# EAGLE library part DRV8872 (library drv8872)
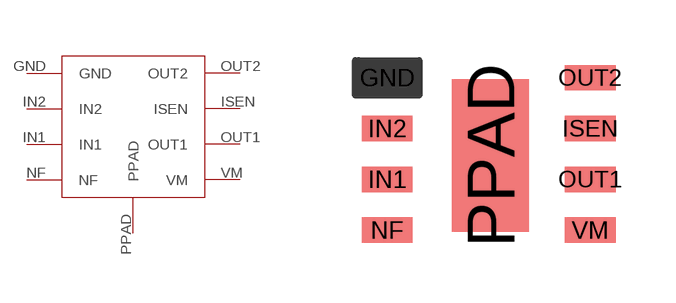
[diagram p0: symbol with the pads of HSOP-8; footprint HSOP-8]

Designator prefix -

## DRV8872  [HSOP-8]
GND  GND
IN1  IN1
IN2  IN2
ISEN  ISEN
NF  NF
OUT1  OUT1
OUT2  OUT2
PPAD  PPAD
VM  VM

## Footprint HSOP-8 (pad centres in mm)
smd 1.27 x 0.635: GND -2.54,4.445; IN1 -2.54,1.905; IN2 -2.54,3.175; ISEN 2.54,3.175; NF -2.54,0.635; OUT1 2.54,1.905; OUT2 2.54,4.445; VM 2.54,0.635
smd 1.93 x 3.81: PPAD 0.038,2.502